# Altium footprint library Inductor.PcbLib: 4 footprints
Each footprint in its own frame and in the unit in brackets; x right, y up, seen from the top. Pads: shape width x height; smd on the part's side, far side on the other; paste and mask are expansions set on the pad; w line width, h text height; cw(c..) or ccw(c..) is an arc to the next point about the centre after c.
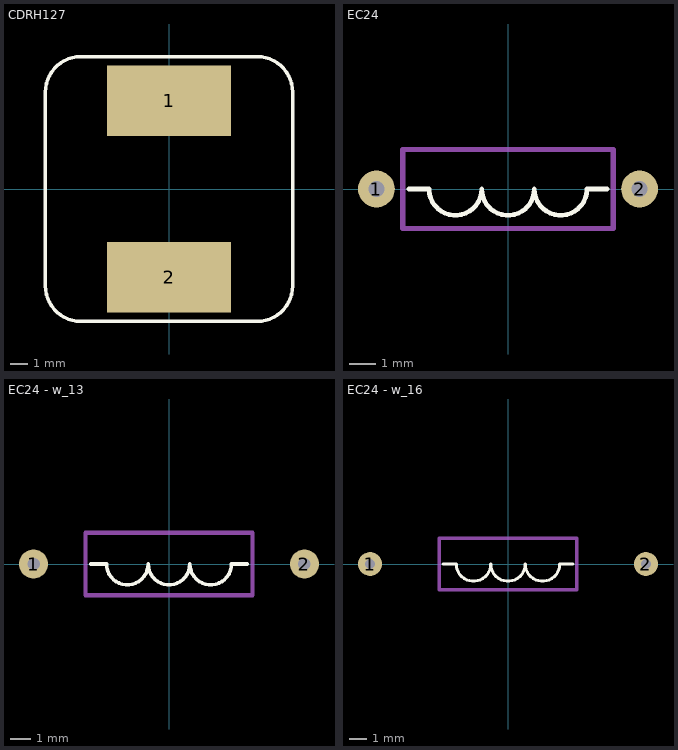
[diagram p0: the footprints below, top view; thin cyan lines are the x and y axes]

## CDRH127 [mm] "Индуктивность, Sumida"
height 12
pads (2):
  rect 7x4 smd: 1(0,5) 2(0,-5)
Top Overlay:
  lines w0.2: -7,-5.5 ccw(c-5,-5.5) -5,-7.5 5,-7.5 ccw(c5,-5.5) 7,-5.5 7,5.5 ccw(c5,5.5) 5,7.5 -5,7.5 ccw(c-5,5.5) -7,5.5 -7,-5.5

## EC24 [mm] "Индуктивность"
height 3
pads (2):
  round 1.4 hole 0.6: 1(-5,0) 2(5,0)
Top Overlay:
  lines w0.178: -3,0 ccw(c-2,0) -1,0 ccw(c0,0) 1,0 ccw(c2,0) 3,0
  lines w0.2: -3.75,0 -3,0 ; 3,0 3.75,0
Mechanical 15:
  lines w0.2: -4,-1.5 -4,0.5 -4,1.5 4,1.5 4,-1.5 -4,-1.5

## EC24 - w_13 [mm] "Индуктивность"
height 3
pads (2):
  round 1.4 hole 0.6: 1(-6.5,0) 2(6.5,0)
Top Overlay:
  lines w0.178: -3,0 ccw(c-2,0) -1,0 ccw(c0,0) 1,0 ccw(c2,0) 3,0
  lines w0.2: -3.75,0 -3,0 ; 3,0 3.75,0
Mechanical 15:
  lines w0.2: -4,-1.5 -4,0.5 -4,1.5 4,1.5 4,-1.5 -4,-1.5

## EC24 - w_16 [mm] "Индуктивность"
height 3
pads (2):
  round 1.4 hole 0.6: 1(-8,0) 2(8,0)
Top Overlay:
  lines w0.178: -3,0 ccw(c-2,0) -1,0 ccw(c0,0) 1,0 ccw(c2,0) 3,0
  lines w0.2: -3.75,0 -3,0 ; 3,0 3.75,0
Mechanical 15:
  lines w0.2: -4,-1.5 -4,0.5 -4,1.5 4,1.5 4,-1.5 -4,-1.5